# Altium integrated library FT220XS-R.IntLib: 1 symbol
Pins are listed as number, name and electrical type; pins without a type are passive.

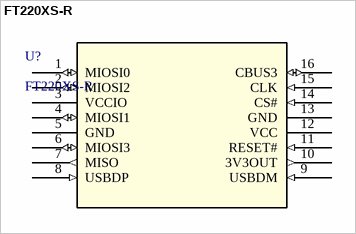
[diagram p0: symbol FT220XS-R]

## FT220XS-R
designator U?
No Description Available; Vendor: FTDI; Built_By: EMA_Cory; SourceLibrary: Add_to_database_2020-11-10; Datasheet: https://www.ftdichip.com/Support/Documents/DataSheets/ICs/DS_FT220X.pdf; Manufacturer_Part_Number: FT220XS-R; Copyright: Copyright (C) 2018 Accelerated Designs. All rights reserved; RefDes: RefDes; Type: DEV
footprint SSOP16_FTD
pins: 1 MIOSI0 (io), 2 MIOSI2 (io), 3 VCCIO (power), 4 MIOSI1 (io), 5 GND, 6 MIOSI3 (io), 7 MISO (out), 8 USBDP (in), 9 USBDM (in), 10 3V3OUT (out), 11 RESET# (in), 12 VCC (power), 13 GND, 14 CS# (in), 15 CLK (in), 16 CBUS3 (io)